# EAGLE library part INVENSENSE_MPU-6000 (library foxcar-control-board-v1)
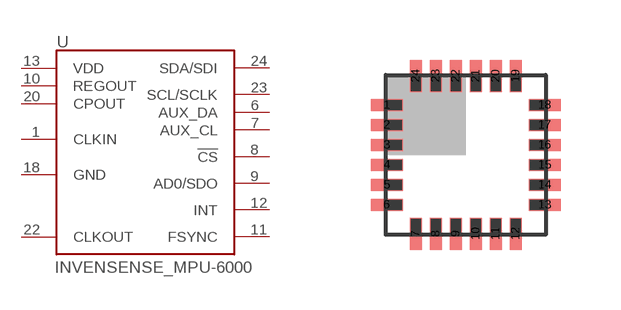
[diagram p6: symbol with the pads of INVENSENSE_QFN.24.4X4; footprint INVENSENSE_QFN.24.4X4]

Designator prefix -

## INVENSENSE_MPU-6000  [INVENSENSE_QFN.24.4X4]
1  CLKIN
6  AUX_DA
7  AUX_CL
8  !CS
9  AD0/SDO
10  REGOUT
11  FSYNC
12  INT
13  VDD
18  GND
20  CPOUT
22  CLKOUT
23  SCL/SCLK
24  SDA/SDI

## Footprint INVENSENSE_QFN.24.4X4 (pad centres in mm)
smd 0.8 x 0.3: 1 -1.975,1.25; 2 -1.975,0.75; 3 -1.975,0.25; 4 -1.975,-0.25; 5 -1.975,-0.75; 6 -1.975,-1.25; 13 1.975,-1.25; 14 1.975,-0.75; 15 1.975,-0.25; 16 1.975,0.25; 17 1.975,0.75; 18 1.975,1.25
smd 0.3 x 0.8: 7 -1.25,-1.975; 8 -0.75,-1.975; 9 -0.25,-1.975; 10 0.25,-1.975; 11 0.75,-1.975; 12 1.25,-1.975; 19 1.25,1.975; 20 0.75,1.975; 21 0.25,1.975; 22 -0.25,1.975; 23 -0.75,1.975; 24 -1.25,1.975